# EAGLE library part ESP-32S (library PatternAgents_RFmodules)
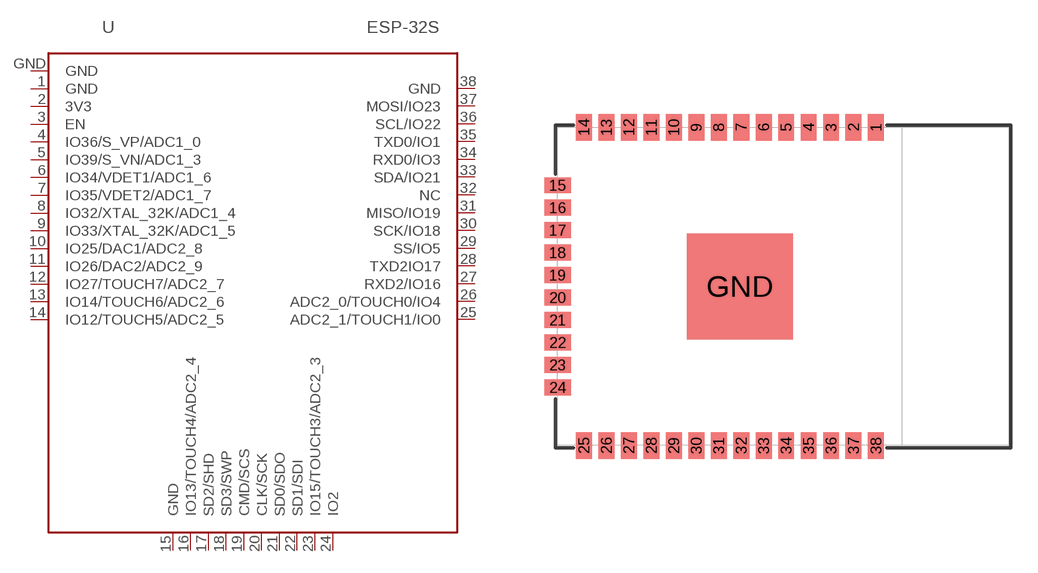
[diagram p3: symbol with the pads of ESP-32S; footprint ESP-32S]

Designator prefix U

## ESP-32S  [ESP-32S]
1  GND
2  3V3
3  EN
4  IO36/S_VP/ADC1_0
5  IO39/S_VN/ADC1_3
6  IO34/VDET1/ADC1_6
7  IO35/VDET2/ADC1_7
8  IO32/XTAL_32K/ADC1_4
9  IO33/XTAL_32K/ADC1_5
10  IO25/DAC1/ADC2_8
11  IO26/DAC2/ADC2_9
12  IO27/TOUCH7/ADC2_7
13  IO14/TOUCH6/ADC2_6
14  IO12/TOUCH5/ADC2_5
15  GND
16  IO13/TOUCH4/ADC2_4
17  SD2/SHD
18  SD3/SWP
19  CMD/SCS
20  CLK/SCK
21  SD0/SDO
22  SD1/SDI
23  IO15/TOUCH3/ADC2_3
24  IO2
25  ADC2_1/TOUCH1/IO0
26  ADC2_0/TOUCH0/IO4
27  RXD2/IO16
28  TXD2IO17
29  SS/IO5
30  SCK/IO18
31  MISO/IO19
32  NC
33  SDA/IO21
34  RXD0/IO3
35  TXD0/IO1
36  SCL/IO22
37  MOSI/IO23
38  GND
GND  GND

## Footprint ESP-32S (pad centres in mm)
smd 0.9 x 1.5: 1 7.7,9; 2 6.43,9; 3 5.16,9; 4 3.89,9; 5 2.62,9; 6 1.35,9; 7 0.08,9; 8 -1.19,9; 9 -2.46,9; 10 -3.73,9; 11 -5,9; 12 -6.27,9; 13 -7.54,9; 14 -8.81,9; 25 -8.81,-9; 26 -7.54,-9; 27 -6.27,-9; 28 -5,-9; 29 -3.73,-9; 30 -2.46,-9; 31 -1.19,-9; 32 0.08,-9; 33 1.35,-9; 34 2.62,-9; 35 3.89,-9; 36 5.16,-9; 37 6.43,-9; 38 7.7,-9
smd 1.5 x 0.9: 15 -10.3,5.715; 16 -10.3,4.445; 17 -10.3,3.175; 18 -10.3,1.905; 19 -10.3,0.635; 20 -10.3,-0.635; 21 -10.3,-1.905; 22 -10.3,-3.175; 23 -10.3,-4.445; 24 -10.3,-5.715
smd 6 x 6: GND 0,0